# Altium integrated library motor_crash_detection_device_pcb.IntLib: 19 symbols
Pins are listed as number, name and electrical type; pins without a type are passive.

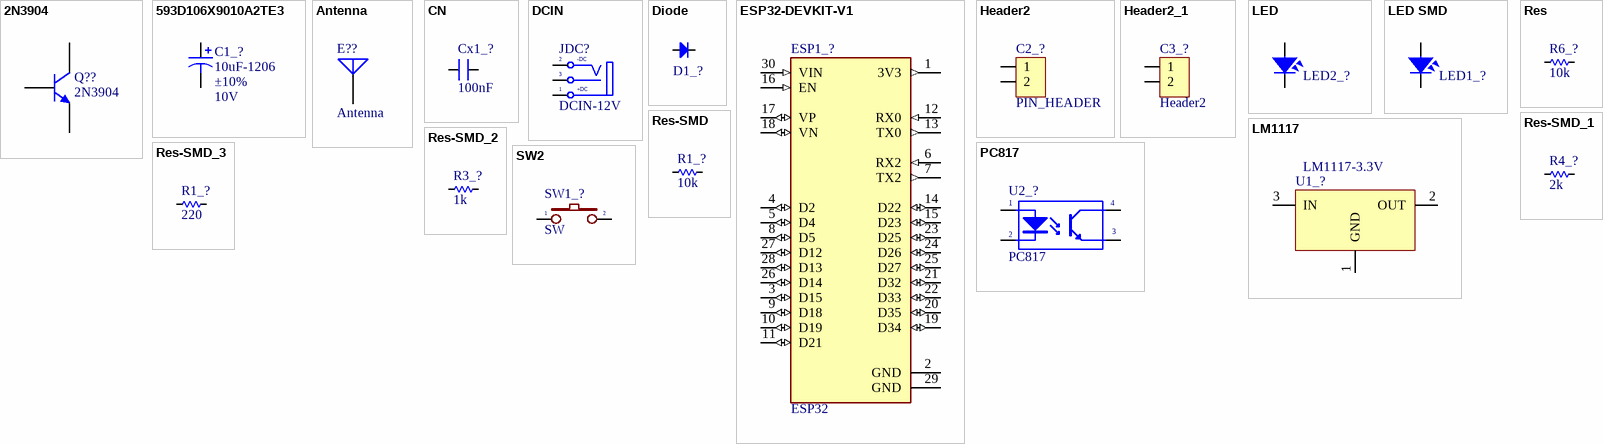
[diagram p0: symbols 2N3904 to SW2]

## 2N3904
designator Q??
NPN General Purpose Amplifier; Published: 8-Jun-2000; LatestRevisionDate: 15-Jan-2003; LatestRevisionNote: PCB Footprint 'BCY-W3/D4.7' replaced; DatasheetVersion: 1997; PackageVersion: Sep-1998; PackageReference: TO-92A; Publisher: Altium Limited; PackageDescription: TO, Flat Index; 3 In-Line, Axial Leads; Body Dia. 4.5mm; Leads 0.51 x 0.48 mm (max); ComponentLink1Description: Manufacturer Link; ComponentLink1URL: http://www.fairchildsemi.com/; ComponentLink2Description: Datasheet; ComponentLink2URL: http://www.fairchildsemi.com/ds/2N%2F2N3904.pdf
footprint TO-92A (TO, Flat Index; 3 In-Line, Axial Leads; Body Dia. 4.5mm; Leads 0.51 x 0.48 mm (max))
simulation model 2N3904 (NPN)
signal-integrity model 2N3904
pins: 1 E, 2 B, 3 C

## 593D106X9010A2TE3
designator C1_?, comment 10uF-1206  Tolerance: ±10%  Voltage - Rated: 10V
CAP TANT 10UF 10V 10% 1206; Manufacturer 1: Vishay Sprague; Manufacturer Part Number 1: 593D106X9010A2TE3; Manufacturer Size Code: A; Category 1: Capacitors; Capacitance: 10µF; Type: Molded; ESR (Equivalent Series Resistance): 2 Ohm; Supplier 1: Digi-Key; Supplier Part Number 1: 718-1969-1-ND; RoHS 1: RoHS Compliant; Description 1: CAP TANT 10UF 10V 10% 1206; Stock 1: 5789; Pricing 1: 1=0.5, 10=0.344, 100=0.2065, 500=0.15486, 1000=0.13077 (USD); Packaging: Cut Tape (CT); Part Status: Active; Operating Temperature: -55°C ~ 125°C; Lifetime @ Temp.: -; Mounting Type: Surface Mount; Package / Case: 1206 (3216 Metric); Size / Dimension: 0.126" L x 0.063" W (3.20mm x 1.60mm); Height - Seated (Max): 0.071" (1.80mm); Lead Spacing: -; Features: General Purpose; Failure Rate: -; ComponentLink1URL: http://www.vishay.com/docs/40005/593d.pdf; ComponentLink1Description: http://www.vishay.com/docs/40005/593d.pdf; Value: 10uF
footprint CAP1206_TANTALUM
footprint CAP1206_TANTALUM_YELLOW
pins: 1, 2

## Antenna
designator E??
Generic Antenna; Published: 24-Mar-1999; LatestRevisionDate: 17-Jul-2002; LatestRevisionNote: Re-released for DXP Platform.; PackageReference: PIN1; Publisher: Altium Limited
footprint PIN1 (Generic Antenna; 1 Lead)
pins: 1 A

## CN
designator Cx1_?, comment 100nF
Value: 33pF
footprint CN1.5
footprint CN1
footprint CN2.5 (Tu pin to pin 250mil)
footprint CN3 (Cap np W 0.3)
footprint CN-SMD-0603
footprint CN-SMD-0805
footprint CN-SMD-0402
footprint CN-SMD-1206
footprint CN-SMD-2520 (TOKO INDUCTOR DFE252012 SERIES)
footprint CN-SMD-3225 (Chip Capacitor, Body 3.2x2.5mm, IPC Medium Density)
footprint CN2-T
footprint CN2-G
footprint CN0.8
footprint CN1-TA
footprint CN2-B
footprint CN2-LT
footprint CN2-O
footprint CN2-R
footprint CN2.5-BR (Tu pin to pin 250mil)
footprint CN2.5-R (Tu pin to pin 250mil)
footprint CN2.5-RV (Tu pin to pin 250mil)
footprint CN3.5 (Cap np W 0.3)
footprint CN4
footprint CN7 (Cap np W 0.3)
footprint CN3-B (Cap np W 0.3)
footprint CN7-B (Cap np W 0.3)
footprint CN7-N (Cap np W 0.3)
footprint CN7-Y (Cap np W 0.3)
footprint CN15 (Cap np W 0.3)
pins: 1, 2

## DCIN
designator JDC?, comment DCIN-12V
Jac DC input; Value: Jac DC
footprint DC0 (Jac DC input)
footprint DC1 (WR-DC_DC Power Jack_Right Angled_THT Center Pin ?0.65_Plug ID ?0.75_Plug OD ?2.35_with Peg)
footprint DC2 (WR-DC_DC Power Jack_Vertical_THT WR-DC_DC Power Jack_Vertical_THT)
footprint DC3 (WR-DC_DC Power Jack_Vertical_THT Center Pin ?2.5_Plug ID ?2.55_Plug OD ?5.5)
footprint DC4 (WR-DC_DC Power Jack_Right Angled_THT Center Pin ?1.0_Plug ID ?1.05_Plug OD ?3.5_with Peg)
footprint DC5 (WR-DC_DC Power Jack_Right Angled_THT Center Pin ?1.3_Plug ID ?1.35_Plug OD ?3.5_with Peg)
pins: 1 T "Tip", 2 TN "Tip Normal (Break Contact)", 3 S (power) "Sleeve (Ground)"
text: -DC; +DC

## Diode
designator D1_?  (value not drawn)
Default Diode; Code - JEDEC: DO-214-AB; Value: 1N5007; Published: 8-Jun-2000; Revision: July-2002: Re-released for DXP Platform.; Publisher: Altium Limited
footprint DIO-1A
footprint DIO-0.5A-SMALL (Diode muoi, W 80mil, L 300mil)
footprint DIO-1A-SMALL (Diode 1A, W 100mil, L 350mil)
footprint DIO-2A (Diode 2A, W 150mil, L 450mil)
footprint DIO-5A (Diode 5A, W 200mil, L 550mil)
footprint DIO-5AN (Diode 5A, W 200mil, L 250mil)
footprint DIO-1AN (Diode 1A, W 100mil, L 150mil)
footprint DIO-3A (Diode 3A)
footprint DIO-2A - LONG (Diode 2A, W 150mil, L 450mil)
footprint DIO-2AN (Diode 2A, W 150mil, L 450mil)
footprint DIO-5A - LONG (Diode 5A, W 200mil, L 550mil)
footprint DIO-7A-SMALL (Diode 7A)
pins: 1 A, 2 K

## ESP32-DEVKIT-V1
designator ESP1_?, comment ESP32
Dual core, Wi-Fi: 2.4 GHz up to 150 Mbits/s,BLE (Bluetooth Low Energy) and legacy Bluetooth, 32 bits, Up to 240 MHz; MP: ESP32-DEVKIT-V1; Value: *; Availability: Unavailable; Package: None; Price: None
footprint MODULE_ESP32_DEVKIT_V1
pins: 1 3V3 (out), 2 GND (power), 3 D15 (io), 4 D2 (io), 5 D4 (io), 6 RX2 (in), 7 TX2 (out), 8 D5 (io), 9 D18 (io), 10 D19 (io), 11 D21 (io), 12 RX0 (in), 13 TX0 (out), 14 D22 (io), 15 D23 (io), 16 EN (in), 17 VP (io), 18 VN (io), 19 D34 (io), 20 D35 (io), 21 D32 (io), 22 D33 (io), 23 D25 (io), 24 D26 (io), 25 D27 (io), 26 D14 (io), 27 D12 (io), 28 D13 (io), 29 GND (power), 30 VIN (in)

## Header2
designator C2_?, comment PIN_HEADER
Header IDC, 2 x 1 Pin Vertical 2.54mm Pitch (Non-Boxed, Male); Manufacturer: W¨¹rth Elektronik eiSos GmbH; partNo: 613002143121; ComponentLink1 Description: Manufacturer; ComponentLink2 Description: Datasheet; NoPins: 02; Created Date: 29 March 2013; ComponentLink1URL: http://www.we-online.com; ComponentLink2URL: http://katalog.we-online.de/em/datasheet/6130xx143121.pdf; Created by: Karrer Zheng
footprint HDR2 (Connector; Header; 2 Position)
footprint Header2 (CON2)
pins: 1, 2

## Header2_1
designator C3_?, comment Header2
Header IDC, 2 x 1 Pin Vertical 2.54mm Pitch (Non-Boxed, Male); Manufacturer: W¨¹rth Elektronik eiSos GmbH; partNo: 613002143121; ComponentLink1 Description: Manufacturer; ComponentLink2 Description: Datasheet; NoPins: 02; Created Date: 29 March 2013; ComponentLink1URL: http://www.we-online.com; ComponentLink2URL: http://katalog.we-online.de/em/datasheet/6130xx143121.pdf; Created by: Karrer Zheng
footprint HDR2 (Connector; Header; 2 Position)
footprint Header2 (CON2)
pins: 1, 2

## LED
designator LED2_?  (value not drawn)
LED Single colour Green and Red; Value: LED 3 ly Single Colour
footprint LED-5-BLUE (LED 2 PIN, 5 ly , Only colour, pin to pin 110mil)
footprint LED-5-Green (LED 2 PIN, 5 ly , Only colour,pin to pin 100mil)
footprint LED-5-RED (LED 2 PIN, 5 ly , Only colour,pin to pin 100mil)
footprint LED-5-WHITE (LED 2 PIN, 5 ly , Only colour, pin to pin 110mil)
footprint LED-5-Yellow (LED 2 PIN, 5 ly , Only colour,pin to pin 100mil)
footprint LED-3MM-YELLOW
footprint LED-3MM-RED
footprint LED-3MM-GREEN
footprint LED-3MM-BLUE
footprint LED-5MM-BLUE
footprint LED-5MM-GREEN
footprint LED-5MM-ORANGE
footprint LED-5MM-RED
footprint LED-5MM-WHITE
footprint LED-5MM-YELLOW
footprint LED-3MM-WHITE (LED 2 PIN, 3ly Only colour)
pins: 1, 2

## LED SMD
designator LED1_?, comment LED  (value not drawn)
Value: LED 3 - 5 ly 2 Colour
footprint LED 3512
footprint LED-0805-Blue
footprint LED-0805-Green
footprint LED-0805-Orange
footprint LED-1206-Blue (Compoment SMD 120x60mil)
footprint LED-0805-Yellow
footprint LED-0805-Red
footprint LED-1206-Green
footprint LED-1206-Orange
footprint LED-1206-Red
footprint LED-1206-Yellow
footprint LED-BLUE 0805
footprint LED-GREEN-0805
footprint LED-ORANGE-0805
footprint LED-RED-0805
footprint LED-WHITE-0805
footprint LED-YELLOW-0805
pins: 1, 2

## LM1117
designator U1_?, comment LM1117-3.3V
800mA Low-Dropout Linear Regulator; Creator: Nguyen Ba Bien; Website: http://group3i.net
footprint SOT223
footprint TO220H1 (TO-220 - 1-2-3)
footprint TO220-123 (TO-220 - 1-2-3)
footprint TO220H2 (TO-220 - 1-2-3)
footprint TO220NH (TO-220 - 1-2-3)
footprint TO220H3 (TO-220 1-2-3)
pins: 1 GND, 2 OUT, 3 IN

## PC817
designator U2_?
Single Opto; Value: PC817
footprint DIP4
pins: 1 A "Anode", 2 K "Cathode", 3 E "Emitter", 4 C "Collector"

## Res
designator R6_?, comment 10k
Res; Manufacturer: Generic Components; Class: Passive; SubClass: R; Published: 08/06/2000; Publisher: Altium Hobart Technology Centre
footprint RES-1/2W
footprint RES-1/4W
footprint RES-1/4W-SMALL
footprint RES-1/4WD
footprint RES-1/8W
footprint RES-1/8W-SMALL (R 1/8W, 2 pin, 200mil)
footprint RES-1/8WD
footprint RES-1W
footprint RES-1W-LONG
footprint RES-1WD
footprint RES-2W (R2W, 2 pin, 700mil)
footprint RES-5W (R5W , 2 pin, 400 x 950mil)
footprint RES-5WD (R5W , 2 pin, 300 x 600 mil)
footprint RES-1/8W-SMALL-2 (R 1/8W, 2 pin, 200mil)
pins: 1, 2

## Res-SMD
designator R1_?, comment 10k
Resistor; Manufacturer: Generic Components; Class: Passive; Published: 08/06/2000; Publisher: Altium Hobart Technology Centre
footprint RES-SMD-0101
footprint RES-SMD-0201
footprint RES-SMD-0603
footprint RES-SMD-0805
footprint RES-SMD-1206
footprint RES-SMD-1210 (Chip Capacitor, Body 3.2x2.5mm, IPC Medium Density)
footprint RES-SMD-1812 (Chip Capacitor, Body 3.2x2.5mm, IPC Medium Density)
footprint RES-SMD-2010 (Chip Capacitor, Body 3.2x2.5mm, IPC Medium Density)
footprint RES-SMD-2512 (Chip Capacitor, Body 3.2x2.5mm, IPC Medium Density)
footprint RES-SMD-0402
pins: 1, 2

## Res-SMD_1
designator R4_?, comment 2k
Resistor; Manufacturer: Generic Components; Class: Passive; Published: 08/06/2000; Publisher: Altium Hobart Technology Centre
footprint RES-SMD-0101
footprint RES-SMD-0201
footprint RES-SMD-0603
footprint RES-SMD-0805
footprint RES-SMD-1206
footprint RES-SMD-1210 (Chip Capacitor, Body 3.2x2.5mm, IPC Medium Density)
footprint RES-SMD-1812 (Chip Capacitor, Body 3.2x2.5mm, IPC Medium Density)
footprint RES-SMD-2010 (Chip Capacitor, Body 3.2x2.5mm, IPC Medium Density)
footprint RES-SMD-2512 (Chip Capacitor, Body 3.2x2.5mm, IPC Medium Density)
footprint RES-SMD-0402
pins: 1, 2

## Res-SMD_2
designator R3_?, comment 1k
Resistor; Manufacturer: Generic Components; Class: Passive; Published: 08/06/2000; Publisher: Altium Hobart Technology Centre
footprint RES-SMD-0101
footprint RES-SMD-0201
footprint RES-SMD-0603
footprint RES-SMD-0805
footprint RES-SMD-1206
footprint RES-SMD-1210 (Chip Capacitor, Body 3.2x2.5mm, IPC Medium Density)
footprint RES-SMD-1812 (Chip Capacitor, Body 3.2x2.5mm, IPC Medium Density)
footprint RES-SMD-2010 (Chip Capacitor, Body 3.2x2.5mm, IPC Medium Density)
footprint RES-SMD-2512 (Chip Capacitor, Body 3.2x2.5mm, IPC Medium Density)
footprint RES-SMD-0402
pins: 1, 2

## Res-SMD_3
designator R1_?, comment 220
Resistor; Manufacturer: Generic Components; Class: Passive; Published: 08/06/2000; Publisher: Altium Hobart Technology Centre
footprint RES-SMD-0101
footprint RES-SMD-0201
footprint RES-SMD-0603
footprint RES-SMD-0805
footprint RES-SMD-1206
footprint RES-SMD-1210 (Chip Capacitor, Body 3.2x2.5mm, IPC Medium Density)
footprint RES-SMD-1812 (Chip Capacitor, Body 3.2x2.5mm, IPC Medium Density)
footprint RES-SMD-2010 (Chip Capacitor, Body 3.2x2.5mm, IPC Medium Density)
footprint RES-SMD-2512 (Chip Capacitor, Body 3.2x2.5mm, IPC Medium Density)
footprint RES-SMD-0402
pins: 1, 2

## SW2
designator SW1_?, comment SW
Switch button 2 pin; Value: SW chip 2 pin
footprint SW1-SMD
footprint SW-DIP1
footprint SW-DIP1-1 (01p, 2.54mm Pitch, Horizontal, Box Type, THT, flat Actuator, red, without Tape, Tube)
footprint SW1-DIP
pins: 1, 2